# Altium schematic symbol library EmbedSys_Library.SchLib: 91 symbols (part 3 of 3)
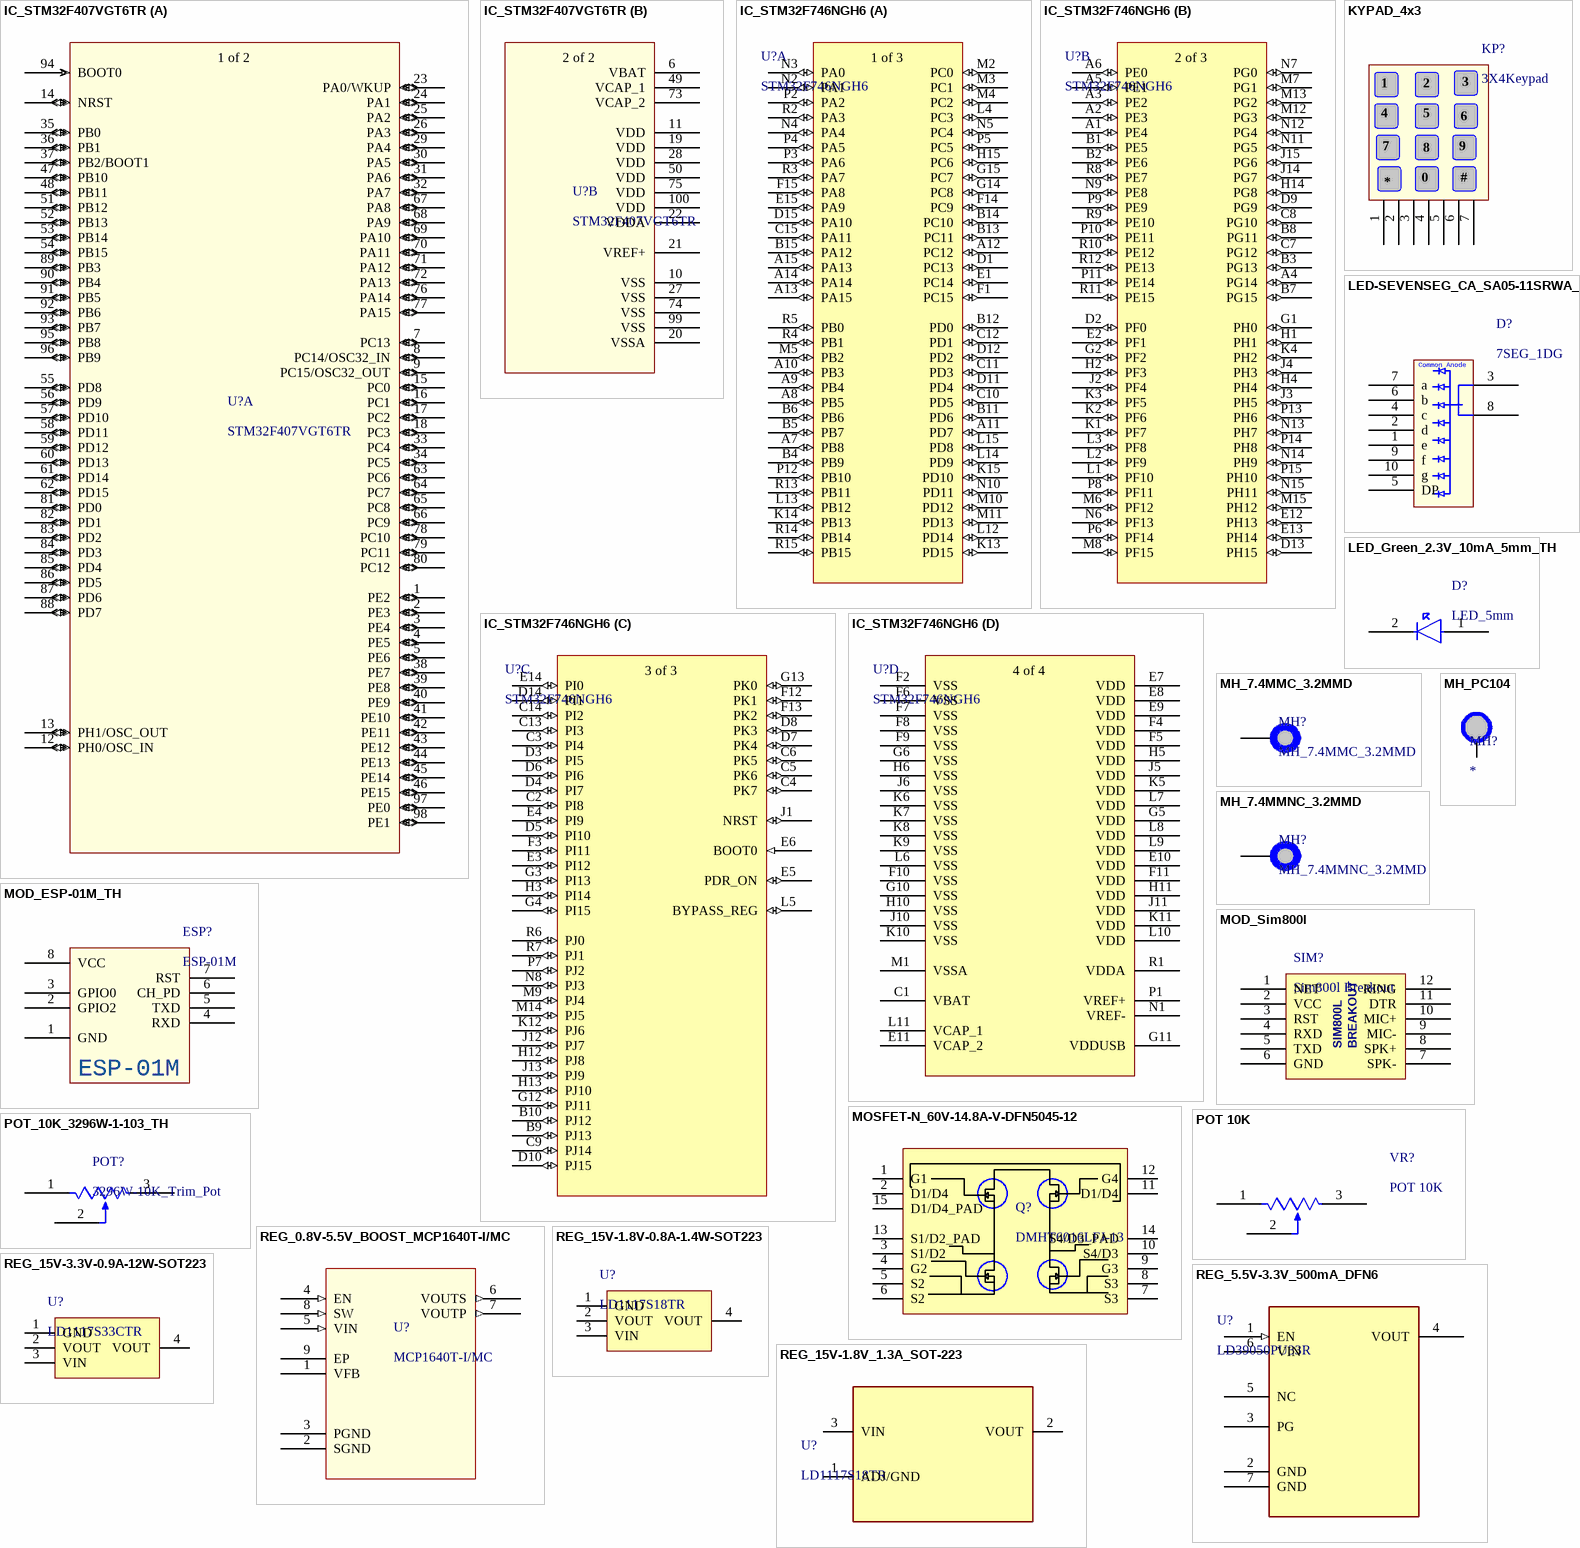
[diagram p7: symbols IC_STM32F407VGT6TR to REG_15V-3.3V-0.9A-12W-SOT223]

## MOSFET-N_60V-14.8A-V-DFN5045-12
designator Q?, comment DMHT6016LFJ-13
Mosfet Array 4 N-Channel 14.8A (Ta) Surface Mount V-DFN5045-12; Manufacturer: Diodes; Supplier 1: Digi-Key; Manufacturer Part Number: DMHT6016LFJ-13; Category: MOSFETs; Pricing 1: 1=1.65000, 10=1.48400, 25=1.40040, 100=1.19310, 500=0.98020, 1000=0.81217 (USD); Mount: Surface Mount; Packaging: Tape and Reel; ComponentLink1URL: https://www.diodes.com/assets/Datasheets/DMHT6016LFJ.pdf?src-supplier=Digi-Key; ComponentLink1Description: https://www.diodes.com/assets/Datasheets/DMHT6016LFJ.pdf?src-supplier=Digi-Key; Supplier Part Number 1: DMHT6016LFJ-13DICT-ND
footprint DFN5045-12_33_212_27X15_SMD_1
pins: 1 G1, 2 D1/D4, 3 S1/D2, 4 G2, 5 S2, 6 S2, 7 S3, 8 S3, 9 G3, 10 S4/D3, 11 D1/D4, 12 G4, 13 S1/D2_PAD, 14 S4/D3_PAD, 15 D1/D4_PAD

## POT 10K
designator VR?
Res Conductive Plastic POT 10K Ohm 20% 1/5W 1(Elec)/1(Mech)Turn 6mm Pin Panel Mount/Through Hole; Manufacturer: TT BI; Manufacturer Part Number: P160KN2-0QA25B10K; Number of Gangs: 1; Resistance: 10kR; Power Rating: 200mW; Actuator Length: 0.984inch; Actuator Diameter: 0.236inch; Supplier 1: Digi-Key; RoHS: Yes; Category: Variable Resistors and Potentiometers; Stock 1: 2543; Pricing 1: 1=0.79000, 10=0.71300, 25=0.64400, 50=0.62100, 100=0.58650, 250=0.56352, 880=0.50600, 1760=0.43700, 5280=0.35650 (USD); Mount: Panel; Min Operating Temperature: -20°C; Max Operating Temperature: 70°C; Taper: Linear; Number of Turns: 1; Termination: Pin; Tolerance: 20%; Packaging: Tray; Package Quantity: 100; Max Power Dissipation: 200mW; Type: Potentiometer; Resistor Type: Conductive Plastic; Length: 34.5mm; Depth: 17mm; Military Standard: Not; ComponentLink1URL: https://datasheet.ciiva.com/48425/p160-eng-tds-48425253.pdf?src-supplier=Distrelec; ComponentLink1Description: https://datasheet.ciiva.com/48425/p160-eng-tds-48425253.pdf?src-supplier=Distrelec; Supplier Part Number 1: 987-1715-ND
footprint 5MM_POT
pins: 1, 2, 3

## POT_10K_3296W-1-103_TH
designator POT?, comment 3296W-10K_Trim_Pot
TRIMMER 10K OHM 0.5W PC PIN TOP; Manufacturer: Bourns; Manufacturer Part Number: 3296W-1-103; Tolerance: 10%; Power Rating: 500mW; Resistance: 10kR; Number of Turns: 25; Temperature Coefficient: 100ppm/°C; Voltage Rating (DC): 500V; RoHS: No; Category: Variable Resistors and Potentiometers; Stock 1: 58; Pricing 1: 1=4.38000, 10=3.83600, 25=3.42520, 50=3.21960, 100=3.15100, 250=3.01400, 500=2.46600, 1000=2.12350, 5000=1.91800 (USD); Mount: PCB,Through Hole; Weight: 0.03oz; Color: Blue; Contact Plating: Tin,Lead; Min Operating Temperature: -55°C; Max Operating Temperature: 125°C; Package Quantity: 50; Packaging: Rail/Tube; Termination: Pin; Resistor Type: Cermet; Max Power Dissipation: 500mW; Taper: Linear; Series: Trimpot® 3296 - Sealed; Technology: CERMET; Resistance Tolerance: 10%; Length: 9.53mm; Width: 9.53mm; Height: 0.395inch; Depth: 4.83mm; Thickness: 5.59mm; Radiation Hardening: No; REACH SVHC: No SVHC; Military Standard: Not; RoHS Compliant: No; ComponentLink1URL: https://datasheet.ciiva.com/3266/3296-3266186.pdf?src-supplier=Avnet; ComponentLink1Description: https://datasheet.ciiva.com/3266/3296-3266186.pdf?src-supplier=Avnet; ComponentLink2URL: https://datasheet.ciiva.com/2164/3296-2164077.pdf?src-supplier=Digi-Key; ComponentLink2Description: https://datasheet.ciiva.com/2164/3296-2164077.pdf?src-supplier=Digi-Key; ComponentLink3URL: https://datasheet.ciiva.com/1570/1815117-1570414.pdf?src-supplier=Newark; ComponentLink3Description: https://datasheet.ciiva.com/1570/1815117-1570414.pdf?src-supplier=Newark; Supplier Part Number 1: 3296W-103-ND
footprint 3296W_TrimPot
pins: 1, 2, 3

## REG_0.8V-5.5V_BOOST_MCP1640T-I/MC
designator U?, comment MCP1640T-I/MC
Conv DC-DC Single Step Up 0.65V to 5.5V 8-Pin DFN EP T/R; SourceLibrary: Microchip_2014-06-20; Built_By: EMA_UL_Team; Vendor: Microchip; Max Output Current: 350mA; Number of Outputs: 1; Min Input Voltage: 650mV; Efficiency: 96%; Switching Frequency: 500kHz; Min Output Voltage: 2V; Topology: Boost; Output Type: Adjustable; Switching Frequency-Max: 575kHz; Manufacturer_Part_Number: MCP1640T-I/MC; Copyright: Copyright (C) 2021 Accelerated Designs. All rights reserved; RefDes: RefDes; Type: DEV; Manufacturer: Microchip; Manufacturer Part Number: MCP1640T-I/MC; RoHS: Yes; Category: Voltage Regulators - Switching; Stock 1: 5452; Pricing 1: 1=0.64000, 25=0.53000, 100=0.48000 (USD); Case/Package: DFN; Number of Pins: 8; Contact Plating: Tin,Matte; Min Operating Temperature: -40°C; Max Operating Temperature: 85°C; Packaging: Tape and Reel; Output Voltage: 5.5V; Max Input Voltage: 5.5V; Package Quantity: 3300; Output Current: 350mA; Max Output Voltage: 5.5V; Voltage Rating: 5.5V; Length: 3mm; Width: 2mm; Height: 0.95mm; Radiation Hardening: No; Lead Free: Lead Free; RoHS Compliant: Yes; ComponentLink1URL: https://datasheet.ciiva.com/12225/22234b-71427-12225381.pdf?src-supplier=Mouser; ComponentLink1Description: https://datasheet.ciiva.com/12225/22234b-71427-12225381.pdf?src-supplier=Mouser; ComponentLink2URL: https://datasheet.ciiva.com/2030/22234b-2030216.pdf?src-supplier=Digi-Key; ComponentLink2Description: https://datasheet.ciiva.com/2030/22234b-2030216.pdf?src-supplier=Digi-Key; ComponentLink3URL: https://datasheet.ciiva.com/17368/22234b-17368717.pdf?src-supplier=Avnet+Europe; ComponentLink3Description: https://datasheet.ciiva.com/17368/22234b-17368717.pdf?src-supplier=Avnet+Europe; Supplier 1: Digi-Key; Supplier Part Number 1: MCP1640T-I/MCCT-ND
footprint DFN8_2x3MC_MCH
pins: 1 VFB, 2 SGND (power), 3 PGND (power), 4 EN (in), 5 VIN (in), 6 VOUTS (out), 7 VOUTP (out), 8 SW (in), 9 EP

## REG_5.5V-3.3V_500mA_DFN6
designator U?, comment LD39050PU33R
LDO Voltage Regulators 3.3V 500mA ULTRA LDO; SourceLibrary: Updates_to_database_2020-11-13; Built_By: EMA_Jessica; Vendor: STMicroelectronics; Dropout Voltage: 200mV; Max Input Voltage: 5.5V; Min Input Voltage: 1.5V; Number of Outputs: 1; Input Bias Current: 20uA; Polarity: Positive; Quiescent Current: 50uA; Accuracy: 2%; Output Type: Fixed; Copyright: Copyright (C) 2018 Accelerated Designs. All rights reserved; Manufacturer_Part_Number: LD39050PU33R; RefDes: RefDes; Type: DEV; Supplier 1: Digi-Key; Manufacturer: STMicroelectronics; Manufacturer Part Number: LD39050PU33R; RoHS: Yes; Category: Voltage Regulators - Linear; Stock 1: 6312; Pricing 1: 1=1.15000, 10=1.03200, 25=0.97960, 100=0.80450, 250=0.75208, 500=0.66462, 1000=0.57750 (USD); Mount: Surface Mount; Case/Package: DFN EP; Number of Pins: 6; Contact Plating: Tin,Matte; Min Operating Temperature: -40°C; Max Operating Temperature: 125°C; Package Quantity: 1; Packaging: Tape and Reel; Output Voltage: 3.3V; Max Output Current: 500mA; Output Current: 500mA; Number of Regulators: 1; Min Output Voltage: 3.3V; Output Voltage Accuracy: 2%; Series: -; Radiation Hardening: No; Lead Free: Lead Free; RoHS Compliant: Yes; ComponentLink1URL: https://datasheet.ciiva.com/15111/getdatasheetpartid-116115-15111821.pdf?src-supplier=Verical; ComponentLink1Description: https://datasheet.ciiva.com/15111/getdatasheetpartid-116115-15111821.pdf?src-supplier=Verical; ComponentLink2URL: https://datasheet.ciiva.com/41441/001186049-da-01-en-ic-reg-ldo-3-3v-ld39050pu33r-vdfn-6-stm-41441150.pdf?src-supplier=Conrad; ComponentLink2Description: https://datasheet.ciiva.com/41441/001186049-da-01-en-ic-reg-ldo-3-3v-ld39050pu33r-vdfn-6-stm-41441150.pdf?src-supplier=Conrad; ComponentLink3URL: https://datasheet.ciiva.com/2043/cd00227527-2043264.pdf?src-supplier=Digi-Key; ComponentLink3Description: https://datasheet.ciiva.com/2043/cd00227527-2043264.pdf?src-supplier=Digi-Key; ComponentLink4URL: https://datasheet.ciiva.com/2043/cd00227527-2043265.pdf?src-supplier=Digi-Key; ComponentLink4Description: https://datasheet.ciiva.com/2043/cd00227527-2043265.pdf?src-supplier=Digi-Key; ComponentLink5URL: https://datasheet.ciiva.com/16457/cd00227527-16457803.pdf?src-supplier=Future+Electronics; ComponentLink5Description: https://datasheet.ciiva.com/16457/cd00227527-16457803.pdf?src-supplier=Future+Electronics; ComponentLink6URL: https://datasheet.ciiva.com/2043/cd00227527-2043263.pdf?src-supplier=Digi-Key; ComponentLink6Description: https://datasheet.ciiva.com/2043/cd00227527-2043263.pdf?src-supplier=Digi-Key; Supplier Part Number 1: 497-8716-1-ND
footprint DFN6_3X3_STM
pins: 1 EN (in), 2 GND (power), 3 PG (power), 4 VOUT (power), 5 NC, 6 VIN (power), 7 GND (power)

## REG_15V-1.8V-0.8A-1.4W-SOT223
designator U?, comment LD1117S18TR
LDO Voltage Regulators 1.8V 0.8A Positive; Manufacturer: STMicroelectronics; Alternate Part Number-1: NA; Manufacturer Part Number: LD1117S18TR; Case/Package: SOT-223-3; Supplier-1: Mouser; Supplier Part Number-1: 511-LD1117S18-TR
footprint SOT223_3 (CASE: SOT223)
pins: 1 GND, 2 VOUT, 3 VIN, 4 VOUT

## REG_15V-1.8V_1.3A_SOT-223
designator U?, comment LD1117S18TR
STMICROELECTRONICS         LD1117S18TR             Fixed LDO Voltage Regulator, 15V in, 1.1V Dropout, 1.8V/950mA out, SOT-223-3; SourceLibrary: Updates_to_database_2020-11-13; Built_By: EMA_UL_Team; Max Power Dissipation: 12W; Number of Outputs: 1; Max Output Current: 1.3A; Output Voltage: 1.8V; Output Current: 950mA; Input Bias Current: 5mA; Quiescent Current: 10mA; Polarity: Positive; Accuracy: 1%; Manufacturer_Part_Number: LD1117S18TR; Vendor: STMicroelectronics; Copyright: Copyright (C) 2018 Accelerated Designs. All rights reserved; RefDes: RefDes; Type: DEV; Supplier 1: Digi-Key; Manufacturer: STMicroelectronics; Manufacturer Part Number: LD1117S18TR; RoHS: Yes; Category: Voltage Regulators - Linear; Stock 1: 28232; Pricing 1: 1=0.64000, 10=0.55100, 25=0.51440, 100=0.41140, 250=0.38200, 500=0.32322, 1000=0.24976 (USD); Mount: Surface Mount; Case/Package: SOT-223; Number of Pins: 4; Min Operating Temperature: 0°C; Max Operating Temperature: 125°C; Packaging: Tape and Reel; Max Input Voltage: 15V; Package Quantity: 1; Dropout Voltage: 1.1V; Number of Regulators: 1; Power Dissipation: 12W; Min Output Voltage: 1.8V; Nominal Output Voltage: 1.8V; Output Voltage Accuracy: 1%; Output Type: Fixed; Series: -; Length: 6.5mm; Width: 3.5mm; Height: 1.8mm; Radiation Hardening: No; REACH SVHC: No SVHC; Lead Free: Lead Free; RoHS Compliant: Yes; ComponentLink1URL: https://datasheet.ciiva.com/2041/cd00000544-2041936.pdf?src-supplier=Digi-Key; ComponentLink1Description: https://datasheet.ciiva.com/2041/cd00000544-2041936.pdf?src-supplier=Digi-Key; ComponentLink2URL: https://datasheet.ciiva.com/2041/cd00000544-2041937.pdf?src-supplier=Digi-Key; ComponentLink2Description: https://datasheet.ciiva.com/2041/cd00000544-2041937.pdf?src-supplier=Digi-Key; ComponentLink3URL: https://datasheet.ciiva.com/16369/cd00000544-16369927.pdf?src-supplier=Future+Electronics; ComponentLink3Description: https://datasheet.ciiva.com/16369/cd00000544-16369927.pdf?src-supplier=Future+Electronics; ComponentLink4URL: https://datasheet.ciiva.com/2041/cd00000544-2041935.pdf?src-supplier=Digi-Key; ComponentLink4Description: https://datasheet.ciiva.com/2041/cd00000544-2041935.pdf?src-supplier=Digi-Key; ComponentLink5URL: https://datasheet.ciiva.com/41440/001185790-da-01-en-ic-reg-ldo-1-8v-ld1117s18tr-sot-223-stm-41440741.pdf?src-supplier=Conrad; ComponentLink5Description: https://datasheet.ciiva.com/41440/001185790-da-01-en-ic-reg-ldo-1-8v-ld1117s18tr-sot-223-stm-41440741.pdf?src-supplier=Conrad; Supplier Part Number 1: 497-7308-1-ND
footprint SOT-223_STM
pins: 1 ADJ/GND, 2 VOUT (power), 3 VIN (power)

## REG_15V-3.3V-0.9A-12W-SOT223
designator U?, comment LD1117S33CTR
Linear Voltage Regulator IC 1 Output 800mA SOT-223; Manufacturer: STMicroelectronics; Alternate Part Number-1: NA; Manufacturer Part Number: LD1117S33CTR; Case/Package: SOT223; Supplier-1: SP ROAD; Supplier Part Number-1: LD1117S33CTR
footprint SOT223_3
pins: 1 GND, 2 VOUT, 3 VIN, 4 VOUT

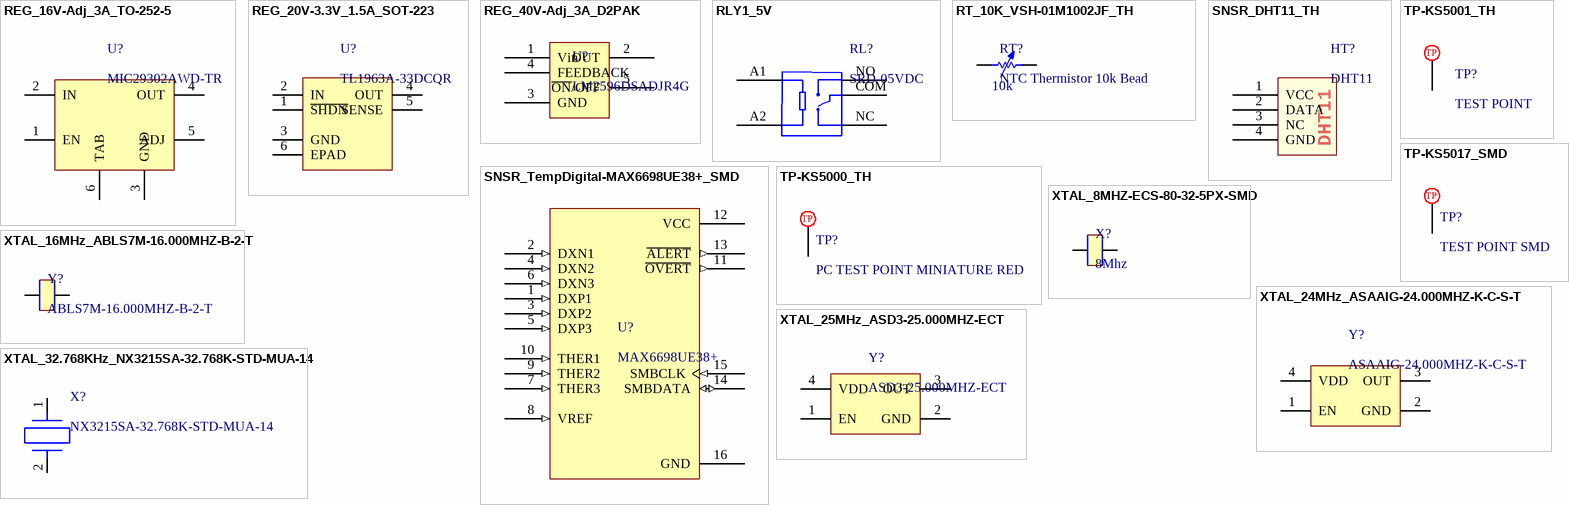
[diagram p5: symbols REG_16V-Adj_3A_TO-252-5 to XTAL_32.768KHz_NX3215SA-32.768K-STD-MUA-14]

## REG_16V-Adj_3A_TO-252-5
designator U?, comment MIC29302AWD-TR
IC REG LINEAR POS ADJ 3A TO252-5; Manufacturer: Microchip; Number of Outputs: 1; Min Input Voltage: 3V; Output Voltage: 15V; Dropout Voltage: 450mV; Polarity: Positive; Output Voltage Accuracy: 2%; Supplier 1: Digi-Key; Manufacturer Part Number: MIC29302AWD-TR; RoHS: No; Category: Voltage Regulators - Linear; Stock 1: 2431; Pricing 1: 1=1.96000, 25=1.64000, 100=1.49000 (USD); Mount: Surface Mount; Case/Package: TO-263-6; Min Operating Temperature: -40°C; Max Operating Temperature: 125°C; Packaging: Tape and Reel; Output Current: 3A; Number of Regulators: 1; Min Current Limit: 3A; Series: -; Lead Free: Lead Free; RoHS Compliant: No; ComponentLink1URL: https://datasheet.ciiva.com/6582/mic29302a-6582272.pdf?src-supplier=Digi-Key; ComponentLink1Description: https://datasheet.ciiva.com/6582/mic29302a-6582272.pdf?src-supplier=Digi-Key; ComponentLink2URL: https://datasheet.ciiva.com/6582/mic29302a-6582270.pdf?src-supplier=Digi-Key; ComponentLink2Description: https://datasheet.ciiva.com/6582/mic29302a-6582270.pdf?src-supplier=Digi-Key; Supplier Part Number 1: 576-4106-1-ND
footprint TO-252-5
pins: 1 EN, 2 IN, 3 GND, 4 OUT, 5 ADJ, 6 TAB

## REG_20V-3.3V_1.5A_SOT-223
designator U?, comment TL1963A-33DCQR
IC REG LINEAR 3.3V 1.5A SOT223-6; Manufacturer: Texas Instruments; Dropout Voltage: 340mV; Number of Outputs: 1; Max Input Voltage: 20V; Min Input Voltage: 2.1V; Min Current Limit: 1.6A; Input Bias Current: 1mA; Polarity: Positive; Accuracy: 3%; Output Type: Fixed; Supplier 1: Arrow Electronics; Manufacturer Part Number: TL1963A-33DCQR; RoHS: Yes; Category: Voltage Regulators - Linear; Stock 1: 1994; Pricing 1: 1=3.03940, 10=2.70250, 25=2.66220, 100=2.15850, 250=2.13670, 500=1.82850, 1000=1.81010, 2500=2.81000, 25000=2.65000, 250000=1.72200, 1250000=1.24700, 2500000=1.24300 (USD); Case/Package: SOT-223; Number of Pins: 6; Contact Plating: Gold; Min Operating Temperature: -40°C; Max Operating Temperature: 125°C; Package Quantity: 1; Packaging: Tape and Reel; Output Voltage: 3.3V; Output Current: 1.5A; Max Output Current: 1.5A; Number of Regulators: 1; Quiescent Current: 1mA; Max Output Voltage: 3.3V; Min Output Voltage: 3.3V; Series: -; Radiation Hardening: No; Lead Free: Lead Free; RoHS Compliant: Yes; ComponentLink1URL: https://datasheet.ciiva.com/2046/tl1963a-2046161.pdf?src-supplier=Digi-Key; ComponentLink1Description: https://datasheet.ciiva.com/2046/tl1963a-2046161.pdf?src-supplier=Digi-Key; ComponentLink2URL: https://datasheet.ciiva.com/2046/tl1963a-2046162.pdf?src-supplier=Digi-Key; ComponentLink2Description: https://datasheet.ciiva.com/2046/tl1963a-2046162.pdf?src-supplier=Digi-Key; ComponentLink3URL: https://datasheet.ciiva.com/2046/tl1963a-2046163.pdf?src-supplier=Digi-Key; ComponentLink3Description: https://datasheet.ciiva.com/2046/tl1963a-2046163.pdf?src-supplier=Digi-Key; ComponentLink4URL: https://datasheet.ciiva.com/26176/tl1963a-25-26176569.pdf?src-supplier=Avnet+Europe; ComponentLink4Description: https://datasheet.ciiva.com/26176/tl1963a-25-26176569.pdf?src-supplier=Avnet+Europe; Supplier Part Number 1: TL1963A-33DCQR
footprint DCQ(R-PDSO-G6)
pins: 1 ~{SHDN}, 2 IN, 3 GND, 4 OUT, 5 SENSE, 6 EPAD

## REG_40V-Adj_3A_D2PAK
designator U?, comment LM2596DSADJR4G
Sw. Regulator 3A Adj. Step-Down D2PAK-5; Manufacturer: ON Semiconductor; Number of Outputs: 1; Max Input Voltage: 40V; Min Input Voltage: 4.5V; Output Voltage: 37V; Efficiency: 73%; Switching Frequency: 150kHz; Synchronous Rectifier: No; Min Output Voltage: 1.23V; Topology: Buck-Boost; Output Type: Adjustable; Supplier 1: Digi-Key; Manufacturer Part Number: LM2596DSADJR4G; RoHS: Yes; Category: Voltage Regulators - Switching; Stock 1: 3215; Pricing 1: 1=2.24000, 10=2.01100, 25=1.89760, 100=1.59390 (USD); Mount: Surface Mount; Case/Package: D2PAK; Number of Pins: 5; Min Operating Temperature: -40°C; Max Operating Temperature: 125°C; Max Output Current: 3A; Packaging: Tape and Reel; Output Current: 3A; Package Quantity: 800; Max Output Voltage: 37V; Operating Supply Voltage: 40V; Series: LM2596; Switching Frequency-Max: 150kHz; Length: 10.24mm; Width: 4.572mm; Height: 9.347mm; Radiation Hardening: No; REACH SVHC: No SVHC; Lead Free: Lead Free; Halogen Free: Halogen Free; RoHS Compliant: Yes; ComponentLink1URL: https://datasheet.ciiva.com/15113/getdatasheetpartid-224280-15113862.pdf?src-supplier=Verical; ComponentLink1Description: https://datasheet.ciiva.com/15113/getdatasheetpartid-224280-15113862.pdf?src-supplier=Verical; ComponentLink2URL: https://datasheet.ciiva.com/6603/lm2596-d-6603896.pdf?src-supplier=Digi-Key; ComponentLink2Description: https://datasheet.ciiva.com/6603/lm2596-d-6603896.pdf?src-supplier=Digi-Key; ComponentLink3URL: https://datasheet.ciiva.com/6603/lm2596-d-6603897.pdf?src-supplier=Digi-Key; ComponentLink3Description: https://datasheet.ciiva.com/6603/lm2596-d-6603897.pdf?src-supplier=Digi-Key; ComponentLink4URL: https://datasheet.ciiva.com/6603/lm2596-d-6603898.pdf?src-supplier=Digi-Key; ComponentLink4Description: https://datasheet.ciiva.com/6603/lm2596-d-6603898.pdf?src-supplier=Digi-Key; ComponentLink5URL: https://datasheet.ciiva.com/8270/lm2596-d-8270188.pdf?src-supplier=Avnet; ComponentLink5Description: https://datasheet.ciiva.com/8270/lm2596-d-8270188.pdf?src-supplier=Avnet; Supplier Part Number 1: LM2596DSADJR4GOSCT-ND
footprint D2PAK 5_LEAD
pins: 1 Vin, 2 OUT, 3 GND, 4 FEEDBACK, 5 ~{ON}/OFF

## RLY1_5V
designator RL?, comment SRD-05VDC
TE CONNECTIVITY - 1-1721150-0 - POWER RELAY, SPDT, 277VAC, 10A, TH; Manufacturer: TE Connectivity P&B; Contact Current Rating: 15A; Coil Voltage (DC): 5V; Voltage Rating (AC): 125V; Manufacturer Part Number: 1-1721150-0; RoHS: Yes; Category: Signal Relays; Stock 1: 9261; Pricing 1: 1=1.34000, 10=1.26000, 25=1.12000, 50=1.06400, 100=1.00800, 250=0.89600, 500=0.84000, 1000=0.78400, 5000=0.75600 (USD); Mount: Through Hole; Number of Pins: 5; Weight: 9.5g; Max Operating Temperature: 85°C; Packaging: Rail/Tube; Throw Configuration: SPDT; Termination: PCB; Length: 19mm; Width: 15.5mm; Height: 15.8mm; Depth: 15.5mm; Lead Free: Lead Free; ELV: Compliant; ComponentLink1URL: https://datasheet.ciiva.com/14189/eng-cd-1721150-c-14189465.pdf?src-supplier=Avnet; ComponentLink1Description: https://datasheet.ciiva.com/14189/eng-cd-1721150-c-14189465.pdf?src-supplier=Avnet; ComponentLink2URL: https://datasheet.ciiva.com/48542/eng-cd-1721150-c-48542490.pdf?src-supplier=Onlinecomponents.com; ComponentLink2Description: https://datasheet.ciiva.com/48542/eng-cd-1721150-c-48542490.pdf?src-supplier=Onlinecomponents.com; Supplier 1: Digi-Key; Supplier Part Number 1: PB2032-ND
footprint SRD-05VDC
pins: A1, A2, COM, NC, NO

## RT_10K_VSH-01M1002JF_TH
designator RT?, comment NTC Thermistor 10k Bead  value 10k
NTC 10 kOhm ± 5 % Through Hole Coated Radial Leaded Thermistor; Manufacturer: Vishay Dale; Manufacturer Part Number: 01M1002JF; Tolerance: 5%; Resistance: 10kR; Supplier 1: Digi-Key; RoHS: Yes; Category: Thermistors; Stock 1: 1295; Pricing 1: 1=3.47000, 5=3.22400, 10=2.67900, 25=2.23240, 50=1.98440, 100=1.88520, 500=1.58752, 1000=1.48830, 5000=1.38908 (USD); Mount: Free Hanging,Through Hole; Case/Package: Radial; Number of Pins: 2; Contact Plating: Tin; Min Operating Temperature: 0°C; Max Operating Temperature: 125°C; Package Quantity: 500; Packaging: Bulk; Series: M; Resistance Tolerance: 5%; REACH SVHC: Unknown; Lead Free: Lead Free; RoHS Compliant: Yes; ComponentLink1URL: https://datasheet.ciiva.com/16364/tmc-16364217.pdf?src-supplier=Future+Electronics; ComponentLink1Description: https://datasheet.ciiva.com/16364/tmc-16364217.pdf?src-supplier=Future+Electronics; ComponentLink2URL: https://datasheet.ciiva.com/2849/tmc-2849420.pdf?src-supplier=Digi-Key; ComponentLink2Description: https://datasheet.ciiva.com/2849/tmc-2849420.pdf?src-supplier=Digi-Key; ComponentLink3URL: https://datasheet.ciiva.com/7652/1348563-7652349.pdf?src-supplier=Element14; ComponentLink3Description: https://datasheet.ciiva.com/7652/1348563-7652349.pdf?src-supplier=Element14; Supplier Part Number 1: 541-1074-ND
footprint VSH-1M1002
pins: 1, 2

## SNSR_DHT11_TH
designator HT?, comment DHT11
SENSOR HUMID/TEMP 5V DTL 5% MOD; Manufacturer: Adafruit Industries; Manufacturer Part Number: 386; Response Time: 1s; Sensor Type: Temperature; Output Type: Digital; RoHS: Yes; Category: Optoelectronics; Stock 1: 753; Pricing 1: 1=5.00000 (USD); Mount: Chassis Mount; Min Operating Temperature: 0°C; Max Operating Temperature: 50°C; Accuracy: 5%; ComponentLink1URL: https://media.digikey.com/pdf/Data%20Sheets/Adafruit%20PDFs/DHT11_ProdManual.pdf?src-supplier=Digi-Key; ComponentLink1Description: https://media.digikey.com/pdf/Data%20Sheets/Adafruit%20PDFs/DHT11_ProdManual.pdf?src-supplier=Digi-Key; Supplier 1: Digi-Key; Supplier Part Number 1: 1528-1228-ND
footprint DHT11
pins: 1 VCC, 2 DATA, 3 NC, 4 GND

## SNSR_TempDigital-MAX6698UE38+_SMD
designator U?, comment MAX6698UE38+
Temp Sensor Digital Serial (2-Wire) 16-Pin TSSOP Tube; Manufacturer: Maxim; Max Power Dissipation: 754.7mW; Interface: I2C,SMBus,2-Wire; Max Supply Voltage (DC): 5.5V; Min Supply Voltage (DC): 3V; Resolution: 11b; Operating Supply Current: 1mA; Supplier 1: Digi-Key; Manufacturer Part Number: MAX6698UE38+; RoHS: Yes; Category: Temperature and Humidity Sensors; Case/Package: TSSOP; Number of Pins: 16; Min Operating Temperature: -40°C; Max Operating Temperature: 125°C; Packaging: Rail/Tube; Package Quantity: 96; Output Type: Digital; Operating Supply Voltage: 5.5V; Series: -; Radiation Hardening: No; RoHS Compliant: Yes; ComponentLink1URL: https://datasheet.ciiva.com/5299/max6698-89903-5299744.pdf?src-supplier=Mouser; ComponentLink1Description: https://datasheet.ciiva.com/5299/max6698-89903-5299744.pdf?src-supplier=Mouser; ComponentLink2URL: https://datasheet.ciiva.com/16635/max6698-16635784.pdf?src-supplier=Avnet+Europe; ComponentLink2Description: https://datasheet.ciiva.com/16635/max6698-16635784.pdf?src-supplier=Avnet+Europe; ComponentLink3URL: https://datasheet.ciiva.com/3279/max6698-3279833.pdf?src-supplier=Avnet; ComponentLink3Description: https://datasheet.ciiva.com/3279/max6698-3279833.pdf?src-supplier=Avnet; ComponentLink4URL: https://datasheet.ciiva.com/2003/max6698-2003643.pdf?src-supplier=Digi-Key; ComponentLink4Description: https://datasheet.ciiva.com/2003/max6698-2003643.pdf?src-supplier=Digi-Key; Supplier Part Number 1: MAX6698UE38+-ND
footprint SOP65P640X110-16N
pins: 1 DXP1 (in), 2 DXN1 (in), 3 DXP2 (in), 4 DXN2 (in), 5 DXP3 (in), 6 DXN3 (in), 7 THER3 (in), 8 VREF (in), 9 THER2 (in), 10 THER1 (in), 11 ~{OVERT} (out), 12 VCC (power), 13 ~{ALERT} (out), 14 SMBDATA (io), 15 SMBCLK (in), 16 GND (power)

## TP-KS5000_TH
designator TP?, comment PC TEST POINT MINIATURE RED
KEYSTONE - 5000 - PCB Test Point, Miniature, Red, Through Hole Mount, 1 mm, Phosphor Bronze, Silver Plated Contacts; Manufacturer: Keystone Electronics; Manufacturer Part Number: 5000; Body Material: PBT,Bronze; Number of Contacts: 1; Insulation: Insulated; Outside Diameter: 2.54mm; Inside Diameter: 1.27mm; Hole Diameter: 1.6mm; Supplier 1: Digi-Key; RoHS: Yes; Category: Connectors; Stock 1: 403528; Pricing 1: 1=0.42000, 25=0.34080, 100=0.30150, 250=0.28304, 500=0.25230, 1000=0.19884, 2500=0.18180, 5000=0.17044 (USD); Mount: Through Hole,PCB; Color: Red; Material: Nylon,Bronze,Silver; Contact Material: Bronze; Contact Plating: Silver,Tin; Plating: Silver; Housing Color: Red; Package Quantity: 100; Packaging: Bulk; Series: THM; Number of Ports: 1; Orientation: Straight; Length: 7.62mm; Height: 0.3inch; RoHS Compliant: Yes; REACH SVHC: No SVHC; Lead Free: Lead Free; Flammability Rating: UL94 V-0; ComponentLink1URL: https://datasheet.ciiva.com/11836/0900766b8009b7c7-11836046.pdf?src-supplier=RSComponents; ComponentLink1Description: https://datasheet.ciiva.com/11836/0900766b8009b7c7-11836046.pdf?src-supplier=RSComponents; ComponentLink2URL: https://datasheet.ciiva.com/16883/70182825-16883965.pdf?src-supplier=Allied+Electronics; ComponentLink2Description: https://datasheet.ciiva.com/16883/70182825-16883965.pdf?src-supplier=Allied+Electronics; ComponentLink3URL: https://datasheet.ciiva.com/2917/5000-5004-2917627.pdf?src-supplier=Digi-Key; ComponentLink3Description: https://datasheet.ciiva.com/2917/5000-5004-2917627.pdf?src-supplier=Digi-Key; Supplier Part Number 1: 36-5000-ND
footprint KEYSTONE_5000
pins: 1
text: TP

## TP-KS5001_TH
designator TP?, comment TEST POINT
PC TEST POINT MINIATURE BLACK; Manufacturer: Keystone Electronics; Manufacturer Part Number: 5001; Plating: Silver; Body Material: Bronze; Number of Ports: 1; Insulation: Insulated; Inside Diameter: 1.27mm; Outside Diameter: 2.54mm; Hole Diameter: 1.6mm; Supplier 1: Digi-Key; RoHS: Yes; Category: Test Probes, Leads and Clips; Stock 1: 793268; Pricing 1: 1=0.42000, 25=0.34080, 100=0.30150, 250=0.28304, 500=0.25230, 1000=0.19884, 2500=0.18180, 5000=0.17044 (USD); Mount: Through Hole; Color: Black; Contact Material: Bronze; Contact Plating: Silver,Tin; Material: Nylon,Bronze,Silver; Housing Color: Black; Insulation Material: Nylon; Packaging: Bulk; Package Quantity: 100; Series: THM; Termination: Through Hole; Number of Contacts: 1; Orientation: Straight; Diameter: 2.54mm; Length: 7.62mm; Height: 0.3inch; RoHS Compliant: Yes; Lead Free: Lead Free; REACH SVHC: No SVHC; Flammability Rating: UL94 V-0; ComponentLink1URL: https://datasheet.ciiva.com/27052/1581986-27052611.pdf?src-supplier=Jameco; ComponentLink1Description: https://datasheet.ciiva.com/27052/1581986-27052611.pdf?src-supplier=Jameco; ComponentLink2URL: https://datasheet.ciiva.com/11836/0900766b8009b7c7-11836045.pdf?src-supplier=RSComponents; ComponentLink2Description: https://datasheet.ciiva.com/11836/0900766b8009b7c7-11836045.pdf?src-supplier=RSComponents; ComponentLink3URL: https://datasheet.ciiva.com/16318/m60-2p60-16318423.pdf?src-supplier=Future+Electronics; ComponentLink3Description: https://datasheet.ciiva.com/16318/m60-2p60-16318423.pdf?src-supplier=Future+Electronics; ComponentLink4URL: https://datasheet.ciiva.com/22631/1703983-22631100.pdf?src-supplier=Element14; ComponentLink4Description: https://datasheet.ciiva.com/22631/1703983-22631100.pdf?src-supplier=Element14; Supplier Part Number 1: 36-5001-ND
footprint KEYSTONE_5001
pins: 1
text: TP

## TP-KS5017_SMD
designator TP?, comment TEST POINT SMD
PC Test Point, Miniature Phosphor Bronze Silver Plating Surface Mount Mounting Type; Manufacturer: Keystone Electronics; Manufacturer Part Number: 5017; Number of Ports: 1; Supplier 1: Digi-Key; RoHS: Yes; Category: Uncategorized; Stock 1: 178848; Pricing 1: 1=0.43000, 25=0.37760, 100=0.28520, 250=0.27300, 500=0.25260, 1000=0.22410, 2500=0.20780 (USD); Mount: Surface Mount; Color: White; Contact Plating: Tin,Lead; Contact Material: Bronze; Material: Bronze; Package Quantity: 5000; Packaging: Tape and Reel; Termination: Solder; Orientation: Straight; Series: -; Length: 2.66mm; Depth: 1.01mm; REACH SVHC: No SVHC; Lead Free: Lead Free; RoHS Compliant: Yes; ComponentLink1URL: https://datasheet.ciiva.com/18456/5017-18456885.pdf?src-supplier=Digi-Key; ComponentLink1Description: https://datasheet.ciiva.com/18456/5017-18456885.pdf?src-supplier=Digi-Key; ComponentLink2URL: https://datasheet.ciiva.com/18456/5017-18456886.pdf?src-supplier=Digi-Key; ComponentLink2Description: https://datasheet.ciiva.com/18456/5017-18456886.pdf?src-supplier=Digi-Key; ComponentLink3URL: https://datasheet.ciiva.com/18456/5017-18456887.pdf?src-supplier=Digi-Key; ComponentLink3Description: https://datasheet.ciiva.com/18456/5017-18456887.pdf?src-supplier=Digi-Key; Supplier Part Number 1: 36-5017CT-ND
footprint KS-5017
pins: 1
text: TP

## XTAL_8MHZ-ECS-80-32-5PX-SMD
designator X?, comment 8Mhz
CRYSTAL 8.0000MHZ 32PF SMD; Manufacturer: ECS International; Manufacturer Part Number: ECS-80-32-5PX-TR; Supplier 1: Digi-Key; Category: Crystals; Stock 1: 1261; Pricing 1: 1=0.45000, 10=0.37500, 50=0.33760, 100=0.30000, 500=0.28500 (USD); Packaging: Tape and Reel; ComponentLink1URL: https://datasheet.ciiva.com/852/csm-7x-852413.pdf?src-supplier=Digi-Key; ComponentLink1Description: https://datasheet.ciiva.com/852/csm-7x-852413.pdf?src-supplier=Digi-Key; ComponentLink2URL: https://datasheet.ciiva.com/852/csm-7x-852414.pdf?src-supplier=Digi-Key; ComponentLink2Description: https://datasheet.ciiva.com/852/csm-7x-852414.pdf?src-supplier=Digi-Key; ComponentLink3URL: https://datasheet.ciiva.com/852/csm-7x-852415.pdf?src-supplier=Digi-Key; ComponentLink3Description: https://datasheet.ciiva.com/852/csm-7x-852415.pdf?src-supplier=Digi-Key; Supplier Part Number 1: XC1272CT-ND
footprint XTAL_314_240X47_SMD (CASE: TH)
pins: 1, 2

## XTAL_16MHz_ABLS7M-16.000MHZ-B-2-T
designator Y?, comment ABLS7M-16.000MHZ-B-2-T
16MHz ±20ppm Crystal 18pF 60 Ohms 2-SMD, Flat Lead; Manufacturer: Abracon; Alternate Part Number-1: NA; Manufacturer Part Number: ABLS7M-16.000MHZ-B-2-T; Case/Package: SMD; Supplier-1: ARROW; Supplier Part Number-1: ABLS7M-16.000MHZ-B-2-T
footprint XTAL_314_240X47_SMD
pins: 1, 2

## XTAL_24MHz_ASAAIG-24.000MHZ-K-C-S-T
designator Y?, comment ASAAIG-24.000MHZ-K-C-S-T
Manufacturer: Abracon; Supplier 1: Digi-Key; Manufacturer Part Number: ASAAIG-24.000MHZ-K-C-S-T; RoHS: No; Pricing 1: 1=1.43000, 10=1.36400, 50=1.33260, 100=1.14220, 500=1.11048 (USD); Supplier Part Number 1: 535-ASAAIG-24.000MHZ-K-C-S-TCT-ND
footprint 4_SMD No Lead
pins: 1 EN, 2 GND, 3 OUT, 4 VDD

## XTAL_25MHz_ASD3-25.000MHZ-ECT
designator Y?, comment ASD3-25.000MHZ-ECT
Standard Clock Oscillators 25.000MHz 1.8Vdc; Manufacturer: Abracon; Load Capacitance: 15pF; Frequency: 25MHz; Operating Supply Voltage: 1.8V; Frequency Stability: 50ppm; Supplier 1: Digi-Key; Manufacturer Part Number: ASD3-25.000MHZ-ECT; RoHS: Yes; Category: Oscillators; Case/Package: SMD/SMT; Min Operating Temperature: -20°C; Max Operating Temperature: 70°C; Packaging: Tape and Reel; Package Quantity: 1000; Termination: SMD/SMT; Height: 800um; Radiation Hardening: No; Lead Free: Lead Free; ComponentLink1URL: https://datasheet.ciiva.com/866/asdseries-866672.pdf?src-supplier=Avnet; ComponentLink1Description: https://datasheet.ciiva.com/866/asdseries-866672.pdf?src-supplier=Avnet; ComponentLink2URL: https://datasheet.ciiva.com/1389/asdseries-1389316.pdf?src-supplier=Newark; ComponentLink2Description: https://datasheet.ciiva.com/1389/asdseries-1389316.pdf?src-supplier=Newark; ComponentLink3URL: https://datasheet.ciiva.com/18648/asdseries-18648693.pdf?src-supplier=Digi-Key; ComponentLink3Description: https://datasheet.ciiva.com/18648/asdseries-18648693.pdf?src-supplier=Digi-Key; ComponentLink4URL: https://datasheet.ciiva.com/30037/asdseries-30037799.pdf?src-supplier=Avnet; ComponentLink4Description: https://datasheet.ciiva.com/30037/asdseries-30037799.pdf?src-supplier=Avnet; Supplier Part Number 1: 535-9607-1-ND
footprint 4-SMD
pins: 1 EN, 2 GND, 3 OUT, 4 VDD

## XTAL_32.768KHz_NX3215SA-32.768K-STD-MUA-14
designator X?, comment NX3215SA-32.768K-STD-MUA-14
CRYSTAL 32.7680KHZ 6PF SMD; Manufacturer: NDK; Frequency: 32.768kHz; Frequency Tolerance: 20ppm; ESR (Equivalent Series Resistance): 70kR; Supplier 1: Mouser; Manufacturer Part Number: NX3215SA-32.768K-STD-MUA-14; RoHS: Yes; Category: Crystals; Pricing 1: 1=0.68000, 10=0.56300, 50=0.56300, 100=0.49800, 1000=0.39300, 10000=0.32200 (USD); Mount: Surface Mount; Case/Package: SMD/SMT; Number of Pins: 2; Min Operating Temperature: -40°C; Max Operating Temperature: 85°C; Packaging: Tape and Reel; Package Quantity: 3000; Load Capacitance: 6pF; Length: 0.126inch; Width: 0.059inch; Height: 0.035inch; ComponentLink1URL: https://datasheet.ciiva.com/6733/c-nx3215sa-std-mua-9-e-6733110.pdf?src-supplier=Digi-Key; ComponentLink1Description: https://datasheet.ciiva.com/6733/c-nx3215sa-std-mua-9-e-6733110.pdf?src-supplier=Digi-Key; ComponentLink2URL: https://datasheet.ciiva.com/6733/c-nx3215sa-std-mua-9-e-6733111.pdf?src-supplier=Digi-Key; ComponentLink2Description: https://datasheet.ciiva.com/6733/c-nx3215sa-std-mua-9-e-6733111.pdf?src-supplier=Digi-Key; ComponentLink3URL: https://datasheet.ciiva.com/6733/c-nx3215sa-std-mua-9-e-6733112.pdf?src-supplier=Digi-Key; ComponentLink3Description: https://datasheet.ciiva.com/6733/c-nx3215sa-std-mua-9-e-6733112.pdf?src-supplier=Digi-Key; Supplier Part Number 1: 344-NX3215SA32768K14
footprint NX3215SA32768KSTDMUA14
pins: 1, 2